# Altium schematic symbol library JLCPCB Resistor Schematic Lib.SchLib: 63 symbols
Pins are listed as number, name and electrical type; pins without a type are passive.

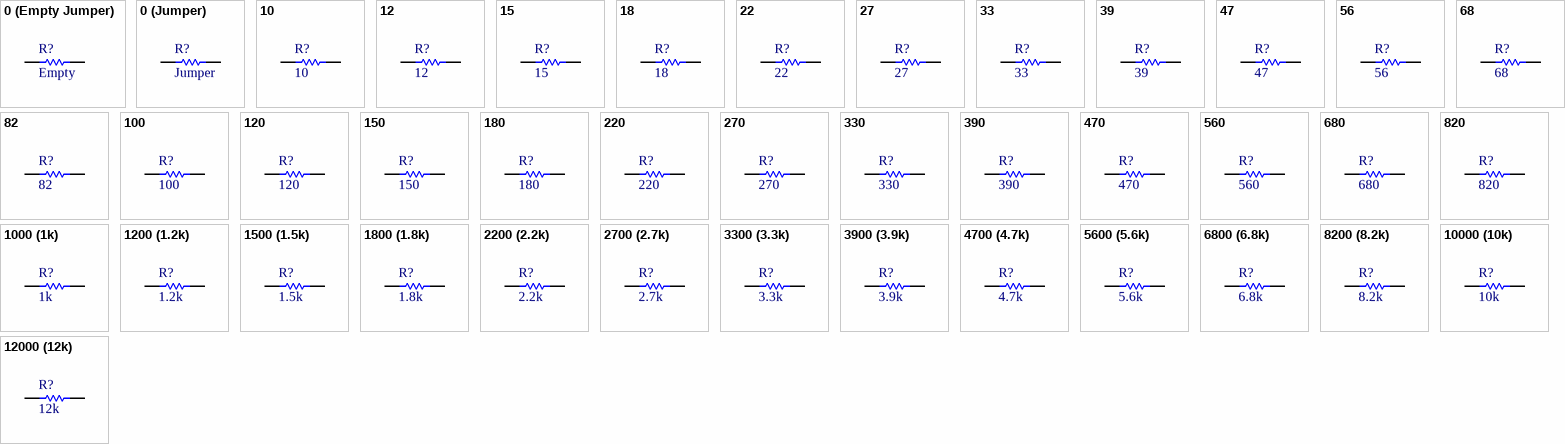
[diagram p0: symbols 0 (Empty Jumper) to 12000 (12k)]

## 0 (Empty Jumper)
designator R?, comment Empty
RES Thick Film, 0Ω, 0.125W, 150V, 0805; Value: 0; Footprint: 0805; ComponentLink1Description: Source; ComponentLink1URL: https://www.mouser.com/ProductDetail/Panasonic/ERJ-6GEY0R00V?qs=tQNqqtTOejLLHbaWAzeH1w%3D%3D; DNI: DNI; DNP: DNP
footprint 0805 (Chip Resistor, 2-Leads, Body 2.00x1.25mm, IPC High Density)
pins: 1, 2
1 alternate drawing of the same symbol

## 0 (Jumper)
designator R?, comment Jumper
RES Thick Film, 0Ω, 0.125W, 150V, 0805; MPN: 0805W8J0000T5E; Manufacturer: UNI-ROYAL(Uniroyal Elec); Power Rating: 125mW; Value: 0; Footprint: 0805; Voltage Rating: 150V; ComponentLink1Description: Source; ComponentLink1URL: https://www.mouser.com/ProductDetail/Panasonic/ERJ-6GEY0R00V?qs=tQNqqtTOejLLHbaWAzeH1w%3D%3D; JLCPCB Basic Part: FALSE; JLCPCB Part #: C25275
footprint 0805 (Chip Resistor, 2-Leads, Body 2.00x1.25mm, IPC High Density)
pins: 1, 2
1 alternate drawing of the same symbol

## 10
designator R?
RES Thick Film, 10Ω, 0.125W, 150V, 0805; MPN: RC0805FR-0710RL; Manufacturer: YAGEO; Power Rating: 125mW; Footprint: 0805; JLCPCB Part #: C96347; Voltage Rating: 150V; ComponentLink1Description: Source; ComponentLink1URL: https://jlcpcb.com/partdetail/Yageo-RC0805FR0710RL/C96347; Value: 10; JLCPCB Basic Part: TRUE
footprint 0805 (Chip Resistor, 2-Leads, Body 2.00x1.25mm, IPC High Density)
pins: 1, 2
1 alternate drawing of the same symbol

## 12
designator R?
RES Thick Film, 12Ω, 0.125W, 150V, 0805; MPN: ERJ6GEYJ120V; Manufacturer: PANASONIC; Power Rating: 125mW; Footprint: 0805; JLCPCB Part #: C413146; Voltage Rating: 150V; ComponentLink1Description: Source; ComponentLink1URL: https://jlcpcb.com/partdetail/Panasonic-ERJ6GEYJ120V/C413146; Value: 12; JLCPCB Basic Part: FALSE
footprint 0805 (Chip Resistor, 2-Leads, Body 2.00x1.25mm, IPC High Density)
pins: 1, 2
1 alternate drawing of the same symbol

## 15
designator R?
RES Thick Film, 15Ω, 0.125W, 150V, 0805; MPN: 0805W8F150JT5E; Manufacturer: UNI-ROYAL; Power Rating: 125mW; Footprint: 0805; JLCPCB Part #: C17480; Voltage Rating: 150V; ComponentLink1Description: Source; ComponentLink1URL: https://jlcpcb.com/partdetail/18168-0805W8F150JT5E/C17480; Value: 15; JLCPCB Basic Part: TRUE
footprint 0805 (Chip Resistor, 2-Leads, Body 2.00x1.25mm, IPC High Density)
pins: 1, 2
1 alternate drawing of the same symbol

## 18
designator R?
RES Thick Film, 18Ω, 0.125W, 150V, 0805; MPN: RC0805JR-0718RL; Manufacturer: YAGEO; Power Rating: 125mW; Footprint: 0805; JLCPCB Part #: C137467; Voltage Rating: 150V; ComponentLink1Description: Source; ComponentLink1URL: https://jlcpcb.com/partdetail/Yageo-RC0805JR0718RL/C137467; Value: 18; JLCPCB Basic Part: FALSE
footprint 0805 (Chip Resistor, 2-Leads, Body 2.00x1.25mm, IPC High Density)
pins: 1, 2
1 alternate drawing of the same symbol

## 22
designator R?
RES Thick Film, 22Ω, 0.125W, 150V, 0805; MPN: 0805W8F220JT5E; Manufacturer: UNI-ROYAL; Power Rating: 125mW; Footprint: 0805; JLCPCB Part #: C17561; Voltage Rating: 150V; ComponentLink1Description: Source; ComponentLink1URL: https://jlcpcb.com/partdetail/18249-0805W8F220JT5E/C17561; Value: 22; JLCPCB Basic Part: TRUE
footprint 0805 (Chip Resistor, 2-Leads, Body 2.00x1.25mm, IPC High Density)
pins: 1, 2
1 alternate drawing of the same symbol

## 27
designator R?
RES Thick Film, 27Ω, 0.125W, 150V, 0805; MPN: 0805W8F270JT5E; Manufacturer: UNI-ROYAL; Power Rating: 125mW; Footprint: 0805; JLCPCB Part #: C17594; Voltage Rating: 150V; ComponentLink1Description: Source; ComponentLink1URL: https://jlcpcb.com/partdetail/18282-0805W8F270JT5E/C17594; Value: 27; JLCPCB Basic Part: TRUE
footprint 0805 (Chip Resistor, 2-Leads, Body 2.00x1.25mm, IPC High Density)
pins: 1, 2
1 alternate drawing of the same symbol

## 33
designator R?
RES Thick Film, 33Ω, 0.125W, 150V, 0805; MPN: 0805W8F330JT5E; Manufacturer: UNI-ROYAL; Power Rating: 125mW; Footprint: 0805; JLCPCB Part #: C17634; Voltage Rating: 150V; ComponentLink1Description: Source; ComponentLink1URL: https://jlcpcb.com/partdetail/18322-0805W8F330JT5E/C17634; Value: 33; JLCPCB Basic Part: TRUE
footprint 0805 (Chip Resistor, 2-Leads, Body 2.00x1.25mm, IPC High Density)
pins: 1, 2
1 alternate drawing of the same symbol

## 39
designator R?
RES Thick Film, 39Ω, 0.125W, 150V, 0805; MPN: AC0805JR-0739RL; Manufacturer: YAGEO; Power Rating: 125mW; Footprint: 0805; JLCPCB Part #: C229199; Voltage Rating: 150V; ComponentLink1Description: Source; ComponentLink1URL: https://jlcpcb.com/partdetail/Yageo-AC0805JR0739RL/C229199; Value: 39; JLCPCB Basic Part: FALSE
footprint 0805 (Chip Resistor, 2-Leads, Body 2.00x1.25mm, IPC High Density)
pins: 1, 2
1 alternate drawing of the same symbol

## 47
designator R?
RES Thick Film, 47Ω, 0.125W, 150V, 0805; MPN: 0805W8F470JT5E; Manufacturer: UNI-ROYAL; Power Rating: 125mW; Footprint: 0805; JLCPCB Part #: C17714; Voltage Rating: 150V; ComponentLink1Description: Source; ComponentLink1URL: https://jlcpcb.com/partdetail/18402-0805W8F470JT5E/C17714; Value: 47; JLCPCB Basic Part: TRUE
footprint 0805 (Chip Resistor, 2-Leads, Body 2.00x1.25mm, IPC High Density)
pins: 1, 2
1 alternate drawing of the same symbol

## 56
designator R?
RES Thick Film, 56Ω, 0.125W, 150V, 0805; MPN: 0805W8F560JT5E; Manufacturer: UNI-ROYAL; Power Rating: 125mW; Footprint: 0805; JLCPCB Part #: C17757; Voltage Rating: 150V; ComponentLink1Description: Source; ComponentLink1URL: https://jlcpcb.com/partdetail/18445-0805W8F560JT5E/C17757; Value: 56; JLCPCB Basic Part: TRUE
footprint 0805 (Chip Resistor, 2-Leads, Body 2.00x1.25mm, IPC High Density)
pins: 1, 2
1 alternate drawing of the same symbol

## 68
designator R?
RES Thick Film, 68Ω, 0.125W, 150V, 0805; MPN: 0805W8F680JT5E; Manufacturer: UNI-ROYAL; Power Rating: 125mW; Footprint: 0805; JLCPCB Part #: C17802; Voltage Rating: 150V; ComponentLink1Description: Source; ComponentLink1URL: https://jlcpcb.com/partdetail/18490-0805W8F680JT5E/C17802; Value: 68; JLCPCB Basic Part: TRUE
footprint 0805 (Chip Resistor, 2-Leads, Body 2.00x1.25mm, IPC High Density)
pins: 1, 2
1 alternate drawing of the same symbol

## 82
designator R?
RES Thick Film, 82Ω, 0.125W, 150V, 0805; MPN: RT0805BRD0782RL; Manufacturer: YAGEO; Power Rating: 125mW; Footprint: 0805; JLCPCB Part #: C706251; Voltage Rating: 150V; ComponentLink1Description: Source; ComponentLink1URL: https://jlcpcb.com/partdetail/Yageo-RT0805BRD0782RL/C706251; Value: 82; JLCPCB Basic Part: FALSE
footprint 0805 (Chip Resistor, 2-Leads, Body 2.00x1.25mm, IPC High Density)
pins: 1, 2
1 alternate drawing of the same symbol

## 100
designator R?
RES Thick Film, 100Ω, 0.125W, 150V, 0805; MPN: 0805W8F1000T5E; Manufacturer: UNI-ROYAL; Power Rating: 125mW; Footprint: 0805; JLCPCB Part #: C17408; Voltage Rating: 150V; ComponentLink1Description: Source; ComponentLink1URL: https://jlcpcb.com/partdetail/18096-0805W8F1000T5E/C17408; Value: 100; JLCPCB Basic Part: TRUE
footprint 0805 (Chip Resistor, 2-Leads, Body 2.00x1.25mm, IPC High Density)
pins: 1, 2
1 alternate drawing of the same symbol

## 120
designator R?
RES Thick Film, 120Ω, 0.125W, 150V, 0805; MPN: 0805W8F1200T5E; Manufacturer: UNI-ROYAL; Power Rating: 125mW; Footprint: 0805; JLCPCB Part #: C17437; Voltage Rating: 150V; ComponentLink1Description: Source; ComponentLink1URL: https://jlcpcb.com/partdetail/18125-0805W8F1200T5E/C17437; Value: 120; JLCPCB Basic Part: TRUE
footprint 0805 (Chip Resistor, 2-Leads, Body 2.00x1.25mm, IPC High Density)
pins: 1, 2
1 alternate drawing of the same symbol

## 150
designator R?
RES Thick Film, 150Ω, 0.125W, 150V, 0805; MPN: 0805W8F1500T5E; Manufacturer: UNI-ROYAL; Power Rating: 125mW; Footprint: 0805; JLCPCB Part #: C17471; Voltage Rating: 150V; ComponentLink1Description: Source; ComponentLink1URL: https://jlcpcb.com/partdetail/18159-0805W8F1500T5E/C17471; Value: 150; JLCPCB Basic Part: TRUE
footprint 0805 (Chip Resistor, 2-Leads, Body 2.00x1.25mm, IPC High Density)
pins: 1, 2
1 alternate drawing of the same symbol

## 180
designator R?
RES Thick Film, 180Ω, 0.125W, 150V, 0805; MPN: 0805W8F1800T5E; Manufacturer: UNI-ROYAL; Power Rating: 125mW; Footprint: 0805; JLCPCB Part #: C25270; Voltage Rating: 150V; ComponentLink1Description: Source; ComponentLink1URL: https://jlcpcb.com/partdetail/26013-0805W8F1800T5E/C25270; Value: 180; JLCPCB Basic Part: TRUE
footprint 0805 (Chip Resistor, 2-Leads, Body 2.00x1.25mm, IPC High Density)
pins: 1, 2
1 alternate drawing of the same symbol

## 220
designator R?
RES Thick Film, 220Ω, 0.125W, 150V, 0805; MPN: 0805W8F2200T5E; Manufacturer: UNI-ROYAL; Power Rating: 125mW; Footprint: 0805; JLCPCB Part #: C17557; Voltage Rating: 150V; ComponentLink1Description: Source; ComponentLink1URL: https://jlcpcb.com/partdetail/18245-0805W8F2200T5E/C17557; Value: 220; JLCPCB Basic Part: TRUE
footprint 0805 (Chip Resistor, 2-Leads, Body 2.00x1.25mm, IPC High Density)
pins: 1, 2
1 alternate drawing of the same symbol

## 270
designator R?
RES Thick Film, 270Ω, 0.125W, 150V, 0805; MPN: 0805W8F2700T5E; Manufacturer: UNI-ROYAL; Power Rating: 125mW; Footprint: 0805; JLCPCB Part #: C17590; Voltage Rating: 150V; ComponentLink1Description: Source; ComponentLink1URL: https://jlcpcb.com/partdetail/18278-0805W8F2700T5E/C17590; Value: 270; JLCPCB Basic Part: TRUE
footprint 0805 (Chip Resistor, 2-Leads, Body 2.00x1.25mm, IPC High Density)
pins: 1, 2
1 alternate drawing of the same symbol

## 330
designator R?
RES Thick Film, 330Ω, 0.125W, 150V, 0805; MPN: 0805W8F3300T5E; Manufacturer: UNI-ROYAL; Power Rating: 125mW; Footprint: 0805; JLCPCB Part #: C17630; Voltage Rating: 150V; ComponentLink1Description: Source; ComponentLink1URL: https://jlcpcb.com/partdetail/18318-0805W8F3300T5E/C17630; Value: 330; JLCPCB Basic Part: TRUE
footprint 0805 (Chip Resistor, 2-Leads, Body 2.00x1.25mm, IPC High Density)
pins: 1, 2
1 alternate drawing of the same symbol

## 390
designator R?
RES Thick Film, 390Ω, 0.125W, 150V, 0805; MPN: 0805W8F3900T5E; Manufacturer: UNI-ROYAL; Power Rating: 125mW; Footprint: 0805; JLCPCB Part #: C17655; Voltage Rating: 150V; ComponentLink1Description: Source; ComponentLink1URL: https://jlcpcb.com/partdetail/18343-0805W8F3900T5E/C17655; Value: 390; JLCPCB Basic Part: TRUE
footprint 0805 (Chip Resistor, 2-Leads, Body 2.00x1.25mm, IPC High Density)
pins: 1, 2
1 alternate drawing of the same symbol

## 470
designator R?
RES Thick Film, 470Ω, 0.125W, 150V, 0805; MPN: 0805W8F4700T5E; Manufacturer: UNI-ROYAL; Power Rating: 125mW; Footprint: 0805; JLCPCB Part #: C17710; Voltage Rating: 150V; ComponentLink1Description: Source; ComponentLink1URL: https://jlcpcb.com/partdetail/18398-0805W8F4700T5E/C17710; Value: 470; JLCPCB Basic Part: TRUE
footprint 0805 (Chip Resistor, 2-Leads, Body 2.00x1.25mm, IPC High Density)
pins: 1, 2
1 alternate drawing of the same symbol

## 560
designator R?
RES Thick Film, 560Ω, 0.125W, 150V, 0805; MPN: 0805W8F5600T5E; Manufacturer: UNI-ROYAL; Power Rating: 125mW; Footprint: 0805; JLCPCB Part #: C28636; Voltage Rating: 150V; ComponentLink1Description: Source; ComponentLink1URL: https://jlcpcb.com/partdetail/29388-0805W8F5600T5E/C28636; Value: 560; JLCPCB Basic Part: TRUE
footprint 0805 (Chip Resistor, 2-Leads, Body 2.00x1.25mm, IPC High Density)
pins: 1, 2
1 alternate drawing of the same symbol

## 680
designator R?
RES Thick Film, 680Ω, 0.125W, 150V, 0805; MPN: 0805W8F6800T5E; Manufacturer: UNI-ROYAL; Power Rating: 125mW; Footprint: 0805; JLCPCB Part #: C17798; Voltage Rating: 150V; ComponentLink1Description: Source; ComponentLink1URL: https://jlcpcb.com/partdetail/18486-0805W8F6800T5E/C17798; Value: 680; JLCPCB Basic Part: TRUE
footprint 0805 (Chip Resistor, 2-Leads, Body 2.00x1.25mm, IPC High Density)
pins: 1, 2
1 alternate drawing of the same symbol

## 820
designator R?
RES Thick Film, 820Ω, 0.125W, 150V, 0805; MPN: 0805W8F8200T5E; Manufacturer: UNI-ROYAL; Power Rating: 125mW; Footprint: 0805; JLCPCB Part #: C17837; Voltage Rating: 150V; ComponentLink1Description: Source; ComponentLink1URL: https://jlcpcb.com/partdetail/18525-0805W8F8200T5E/C17837; Value: 820; JLCPCB Basic Part: TRUE
footprint 0805 (Chip Resistor, 2-Leads, Body 2.00x1.25mm, IPC High Density)
pins: 1, 2
1 alternate drawing of the same symbol

## 1000 (1k)
designator R?, comment 1k
RES Thick Film, 1kΩ, 0.125W, 150V, 0805; MPN: 0805W8F1001T5E; Manufacturer: UNI-ROYAL; Power Rating: 125mW; Footprint: 0805; JLCPCB Part #: C17513; Voltage Rating: 150V; ComponentLink1Description: Source; ComponentLink1URL: https://jlcpcb.com/partdetail/18201-0805W8F1001T5E/C17513; Value: 1k; JLCPCB Basic Part: TRUE
footprint 0805 (Chip Resistor, 2-Leads, Body 2.00x1.25mm, IPC High Density)
pins: 1, 2
1 alternate drawing of the same symbol

## 1200 (1.2k)
designator R?, comment 1.2k
RES Thick Film, 1.2kΩ, 0.125W, 150V, 0805; MPN: 0805W8F1201T5E; Manufacturer: UNI-ROYAL; Power Rating: 125mW; Footprint: 0805; JLCPCB Part #: C17379; Voltage Rating: 150V; ComponentLink1Description: Source; ComponentLink1URL: https://jlcpcb.com/partdetail/18067-0805W8F1201T5E/C17379; Value: 1.2k; JLCPCB Basic Part: TRUE
footprint 0805 (Chip Resistor, 2-Leads, Body 2.00x1.25mm, IPC High Density)
pins: 1, 2
1 alternate drawing of the same symbol

## 1500 (1.5k)
designator R?, comment 1.5k
RES Thick Film, 1.5kΩ, 0.125W, 150V, 0805; MPN: 0805W8F1501T5E; Manufacturer: UNI-ROYAL; Power Rating: 125mW; Footprint: 0805; JLCPCB Part #: C4310; Voltage Rating: 150V; ComponentLink1Description: Source; ComponentLink1URL: https://jlcpcb.com/partdetail/4717-0805W8F1501T5E/C4310; Value: 1.5k; JLCPCB Basic Part: TRUE
footprint 0805 (Chip Resistor, 2-Leads, Body 2.00x1.25mm, IPC High Density)
pins: 1, 2
1 alternate drawing of the same symbol

## 1800 (1.8k)
designator R?, comment 1.8k
RES Thick Film, 1.8kΩ, 0.125W, 150V, 0805; MPN: 0805W8F1801T5E; Manufacturer: UNI-ROYAL; Power Rating: 125mW; Footprint: 0805; JLCPCB Part #: C17398; Voltage Rating: 150V; ComponentLink1Description: Source; ComponentLink1URL: https://jlcpcb.com/partdetail/18086-0805W8F1801T5E/C17398; Value: 1.8k; JLCPCB Basic Part: TRUE
footprint 0805 (Chip Resistor, 2-Leads, Body 2.00x1.25mm, IPC High Density)
pins: 1, 2
1 alternate drawing of the same symbol

## 2200 (2.2k)
designator R?, comment 2.2k
RES Thick Film, 2.2kΩ, 0.125W, 150V, 0805; MPN: 0805W8F2201T5E; Manufacturer: UNI-ROYAL; Power Rating: 125mW; Footprint: 0805; JLCPCB Part #: C17520; Voltage Rating: 150V; ComponentLink1Description: Source; ComponentLink1URL: https://jlcpcb.com/partdetail/18208-0805W8F2201T5E/C17520; Value: 2.2k; JLCPCB Basic Part: TRUE
footprint 0805 (Chip Resistor, 2-Leads, Body 2.00x1.25mm, IPC High Density)
pins: 1, 2
1 alternate drawing of the same symbol

## 2700 (2.7k)
designator R?, comment 2.7k
RES Thick Film, 2.7kΩ, 0.125W, 150V, 0805; MPN: 0805W8F2701T5E; Manufacturer: UNI-ROYAL; Power Rating: 125mW; Footprint: 0805; JLCPCB Part #: C17530; Voltage Rating: 150V; ComponentLink1Description: Source; ComponentLink1URL: https://jlcpcb.com/partdetail/18218-0805W8F2701T5E/C17530; Value: 2.7k; JLCPCB Basic Part: TRUE
footprint 0805 (Chip Resistor, 2-Leads, Body 2.00x1.25mm, IPC High Density)
pins: 1, 2
1 alternate drawing of the same symbol

## 3300 (3.3k)
designator R?, comment 3.3k
RES Thick Film, 3.3kΩ, 0.125W, 150V, 0805; MPN: 0805W8F3301T5E; Manufacturer: UNI-ROYAL; Power Rating: 125mW; Footprint: 0805; JLCPCB Part #: C26010; Voltage Rating: 150V; ComponentLink1Description: Source; ComponentLink1URL: https://jlcpcb.com/partdetail/26753-0805W8F3301T5E/C26010; Value: 3.3k; JLCPCB Basic Part: TRUE
footprint 0805 (Chip Resistor, 2-Leads, Body 2.00x1.25mm, IPC High Density)
pins: 1, 2
1 alternate drawing of the same symbol

## 3900 (3.9k)
designator R?, comment 3.9k
RES Thick Film, 3.9kΩ, 0.125W, 150V, 0805; MPN: 0805W8F3901T5E; Manufacturer: UNI-ROYAL; Power Rating: 125mW; Footprint: 0805; JLCPCB Part #: C17614; Voltage Rating: 150V; ComponentLink1Description: Source; ComponentLink1URL: https://jlcpcb.com/partdetail/18302-0805W8F3901T5E/C17614; Value: 3.9k; JLCPCB Basic Part: TRUE
footprint 0805 (Chip Resistor, 2-Leads, Body 2.00x1.25mm, IPC High Density)
pins: 1, 2
1 alternate drawing of the same symbol

## 4700 (4.7k)
designator R?, comment 4.7k
RES Thick Film, 4.7kΩ, 0.125W, 150V, 0805; MPN: 0805W8F4701T5E; Manufacturer: UNI-ROYAL; Power Rating: 125mW; Footprint: 0805; JLCPCB Part #: C17673; Voltage Rating: 150V; ComponentLink1Description: Source; ComponentLink1URL: https://jlcpcb.com/partdetail/18361-0805W8F4701T5E/C17673; Value: 4.7k; JLCPCB Basic Part: TRUE
footprint 0805 (Chip Resistor, 2-Leads, Body 2.00x1.25mm, IPC High Density)
pins: 1, 2
1 alternate drawing of the same symbol

## 5600 (5.6k)
designator R?, comment 5.6k
RES Thick Film, 5.6kΩ, 0.125W, 150V, 0805; MPN: 0805W8F5601T5E; Manufacturer: UNI-ROYAL; Power Rating: 125mW; Footprint: 0805; JLCPCB Part #: C4382; Voltage Rating: 150V; ComponentLink1Description: Source; ComponentLink1URL: https://jlcpcb.com/partdetail/4789-0805W8F5601T5E/C4382; Value: 5.6k; JLCPCB Basic Part: TRUE
footprint 0805 (Chip Resistor, 2-Leads, Body 2.00x1.25mm, IPC High Density)
pins: 1, 2
1 alternate drawing of the same symbol

## 6800 (6.8k)
designator R?, comment 6.8k
RES Thick Film, 6.8kΩ, 0.125W, 150V, 0805; MPN: 0805W8F6801T5E; Manufacturer: UNI-ROYAL; Power Rating: 125mW; Footprint: 0805; JLCPCB Part #: C17772; Voltage Rating: 150V; ComponentLink1Description: Source; ComponentLink1URL: https://jlcpcb.com/partdetail/18460-0805W8F6801T5E/C17772; Value: 6.8k; JLCPCB Basic Part: TRUE
footprint 0805 (Chip Resistor, 2-Leads, Body 2.00x1.25mm, IPC High Density)
pins: 1, 2
1 alternate drawing of the same symbol

## 8200 (8.2k)
designator R?, comment 8.2k
RES Thick Film, 8.2kΩ, 0.125W, 150V, 0805; MPN: 0805W8F8201T5E; Manufacturer: UNI-ROYAL; Power Rating: 125mW; Footprint: 0805; JLCPCB Part #: C17828; Voltage Rating: 150V; ComponentLink1Description: Source; ComponentLink1URL: https://jlcpcb.com/partdetail/18516-0805W8F8201T5E/C17828; Value: 8.2k; JLCPCB Basic Part: TRUE
footprint 0805 (Chip Resistor, 2-Leads, Body 2.00x1.25mm, IPC High Density)
pins: 1, 2
1 alternate drawing of the same symbol

## 10000 (10k)
designator R?, comment 10k
RES Thick Film, 10kΩ, 0.125W, 150V, 0805; MPN: 0805W8F1002T5E; Manufacturer: UNI-ROYAL; Power Rating: 125mW; Footprint: 0805; JLCPCB Part #: C17414; Voltage Rating: 150V; ComponentLink1Description: Source; ComponentLink1URL: https://jlcpcb.com/partdetail/18102-0805W8F1002T5E/C17414; Value: 10k; JLCPCB Basic Part: TRUE
footprint 0805 (Chip Resistor, 2-Leads, Body 2.00x1.25mm, IPC High Density)
pins: 1, 2
1 alternate drawing of the same symbol

## 12000 (12k)
designator R?, comment 12k
RES Thick Film, 10kΩ, 0.125W, 150V, 0805; MPN: 0805W8F1202T5E; Manufacturer: UNI-ROYAL; Power Rating: 125mW; Footprint: 0805; JLCPCB Part #: C17444; Voltage Rating: 150V; ComponentLink1Description: Source; ComponentLink1URL: https://jlcpcb.com/partdetail/18132-0805W8F1202T5E/C17444; Value: 12k; JLCPCB Basic Part: TRUE
footprint 0805 (Chip Resistor, 2-Leads, Body 2.00x1.25mm, IPC High Density)
pins: 1, 2
1 alternate drawing of the same symbol

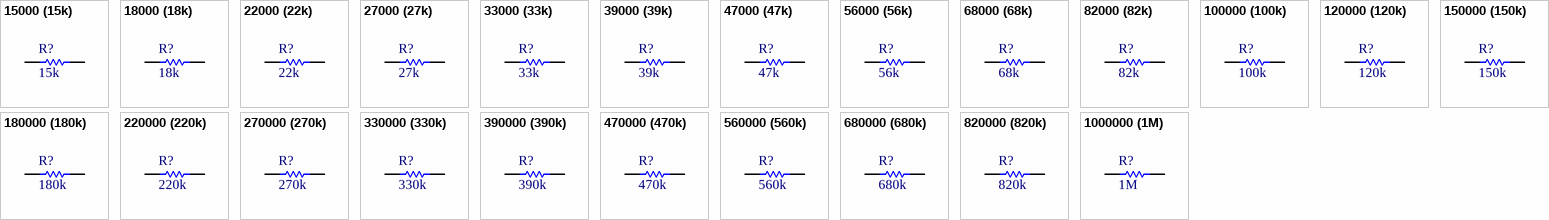
[diagram p1: symbols 15000 (15k) to 1000000 (1M)]

## 15000 (15k)
designator R?, comment 15k
RES Thick Film, 15kΩ, 0.125W, 150V, 0805; MPN: 0805W8F1502T5E; Manufacturer: UNI-ROYAL; Power Rating: 125mW; Footprint: 0805; JLCPCB Part #: C17475; Voltage Rating: 150V; ComponentLink1Description: Source; ComponentLink1URL: https://jlcpcb.com/partdetail/18163-0805W8F1502T5E/C17475; Value: 15k; JLCPCB Basic Part: TRUE
footprint 0805 (Chip Resistor, 2-Leads, Body 2.00x1.25mm, IPC High Density)
pins: 1, 2
1 alternate drawing of the same symbol

## 18000 (18k)
designator R?, comment 18k
RES Thick Film, 18kΩ, 0.125W, 150V, 0805; MPN: 0805W8F1802T5E; Manufacturer: UNI-ROYAL; Power Rating: 125mW; Footprint: 0805; JLCPCB Part #: C17506; Voltage Rating: 150V; ComponentLink1Description: Source; ComponentLink1URL: https://jlcpcb.com/partdetail/18194-0805W8F1802T5E/C17506; Value: 18k; JLCPCB Basic Part: TRUE
footprint 0805 (Chip Resistor, 2-Leads, Body 2.00x1.25mm, IPC High Density)
pins: 1, 2
1 alternate drawing of the same symbol

## 22000 (22k)
designator R?, comment 22k
RES Thick Film, 22kΩ, 0.125W, 150V, 0805; MPN: 0805W8F2202T5E; Manufacturer: UNI-ROYAL; Power Rating: 125mW; Footprint: 0805; JLCPCB Part #: C17560; Voltage Rating: 150V; ComponentLink1Description: Source; ComponentLink1URL: https://jlcpcb.com/partdetail/18248-0805W8F2202T5E/C17560; Value: 22k; JLCPCB Basic Part: TRUE
footprint 0805 (Chip Resistor, 2-Leads, Body 2.00x1.25mm, IPC High Density)
pins: 1, 2
1 alternate drawing of the same symbol

## 27000 (27k)
designator R?, comment 27k
RES Thick Film, 27kΩ, 0.125W, 150V, 0805; MPN: 0805W8F2702T5E; Manufacturer: UNI-ROYAL; Power Rating: 125mW; Footprint: 0805; JLCPCB Part #: C17593; Voltage Rating: 150V; ComponentLink1Description: Source; ComponentLink1URL: https://jlcpcb.com/partdetail/18281-0805W8F2702T5E/C17593; Value: 27k; JLCPCB Basic Part: TRUE
footprint 0805 (Chip Resistor, 2-Leads, Body 2.00x1.25mm, IPC High Density)
pins: 1, 2
1 alternate drawing of the same symbol

## 33000 (33k)
designator R?, comment 33k
RES Thick Film, 33kΩ, 0.125W, 150V, 0805; MPN: 0805W8F3302T5E; Manufacturer: UNI-ROYAL; Power Rating: 125mW; Footprint: 0805; JLCPCB Part #: C17633; Voltage Rating: 150V; ComponentLink1Description: Source; ComponentLink1URL: https://jlcpcb.com/partdetail/18321-0805W8F3302T5E/C17633; Value: 33k; JLCPCB Basic Part: TRUE
footprint 0805 (Chip Resistor, 2-Leads, Body 2.00x1.25mm, IPC High Density)
pins: 1, 2
1 alternate drawing of the same symbol

## 39000 (39k)
designator R?, comment 39k
RES Thick Film, 39kΩ, 0.125W, 150V, 0805; MPN: 0805W8F3902T5E; Manufacturer: UNI-ROYAL; Power Rating: 125mW; Footprint: 0805; JLCPCB Part #: C25826; Voltage Rating: 150V; ComponentLink1Description: Source; ComponentLink1URL: https://jlcpcb.com/partdetail/26569-0805W8F3902T5E/C25826; Value: 39k; JLCPCB Basic Part: TRUE
footprint 0805 (Chip Resistor, 2-Leads, Body 2.00x1.25mm, IPC High Density)
pins: 1, 2
1 alternate drawing of the same symbol

## 47000 (47k)
designator R?, comment 47k
RES Thick Film, 47kΩ, 0.125W, 150V, 0805; MPN: 0805W8F4702T5E; Manufacturer: UNI-ROYAL; Power Rating: 125mW; Footprint: 0805; JLCPCB Part #: C17713; Voltage Rating: 150V; ComponentLink1Description: Source; ComponentLink1URL: https://jlcpcb.com/partdetail/18401-0805W8F4702T5E/C17713; Value: 47k; JLCPCB Basic Part: TRUE
footprint 0805 (Chip Resistor, 2-Leads, Body 2.00x1.25mm, IPC High Density)
pins: 1, 2
1 alternate drawing of the same symbol

## 56000 (56k)
designator R?, comment 56k
RES Thick Film, 56kΩ, 0.125W, 150V, 0805; MPN: 0805W8F5602T5E; Manufacturer: UNI-ROYAL; Power Rating: 125mW; Footprint: 0805; JLCPCB Part #: C17756; Voltage Rating: 150V; ComponentLink1Description: Source; ComponentLink1URL: https://jlcpcb.com/partdetail/18444-0805W8F5602T5E/C17756; Value: 56k; JLCPCB Basic Part: TRUE
footprint 0805 (Chip Resistor, 2-Leads, Body 2.00x1.25mm, IPC High Density)
pins: 1, 2
1 alternate drawing of the same symbol

## 68000 (68k)
designator R?, comment 68k
RES Thick Film, 68kΩ, 0.125W, 150V, 0805; MPN: 0805W8F6802T5E; Manufacturer: UNI-ROYAL; Power Rating: 125mW; Footprint: 0805; JLCPCB Part #: C17801; Voltage Rating: 150V; ComponentLink1Description: Source; ComponentLink1URL: https://jlcpcb.com/partdetail/18489-0805W8F6802T5E/C17801; Value: 68k; JLCPCB Basic Part: TRUE
footprint 0805 (Chip Resistor, 2-Leads, Body 2.00x1.25mm, IPC High Density)
pins: 1, 2
1 alternate drawing of the same symbol

## 82000 (82k)
designator R?, comment 82k
RES Thick Film, 82kΩ, 0.125W, 150V, 0805; MPN: 0805W8F8202T5E; Manufacturer: UNI-ROYAL; Power Rating: 125mW; Footprint: 0805; JLCPCB Part #: C17840; Voltage Rating: 150V; ComponentLink1Description: Source; ComponentLink1URL: https://jlcpcb.com/partdetail/18528-0805W8F8202T5E/C17840; Value: 82k; JLCPCB Basic Part: TRUE
footprint 0805 (Chip Resistor, 2-Leads, Body 2.00x1.25mm, IPC High Density)
pins: 1, 2
1 alternate drawing of the same symbol

## 100000 (100k)
designator R?, comment 100k
RES Thick Film, 100kΩ, 0.125W, 150V, 0805; MPN: 0805W8F1003T5E; Manufacturer: UNI-ROYAL; Power Rating: 125mW; Footprint: 0805; JLCPCB Part #: C149504; Voltage Rating: 150V; ComponentLink1Description: Source; ComponentLink1URL: https://jlcpcb.com/partdetail/160838-0805W8F1003T5E/C149504; Value: 100k; JLCPCB Basic Part: TRUE
footprint 0805 (Chip Resistor, 2-Leads, Body 2.00x1.25mm, IPC High Density)
pins: 1, 2
1 alternate drawing of the same symbol

## 120000 (120k)
designator R?, comment 120k
RES Thick Film, 120kΩ, 0.125W, 150V, 0805; MPN: 0805W8F1203T5E; Manufacturer: UNI-ROYAL; Power Rating: 125mW; Footprint: 0805; JLCPCB Part #: C17436; Voltage Rating: 150V; ComponentLink1Description: Source; ComponentLink1URL: https://jlcpcb.com/partdetail/18124-0805W8F1203T5E/C17436; Value: 120k; JLCPCB Basic Part: TRUE
footprint 0805 (Chip Resistor, 2-Leads, Body 2.00x1.25mm, IPC High Density)
pins: 1, 2
1 alternate drawing of the same symbol

## 150000 (150k)
designator R?, comment 150k
RES Thick Film, 150kΩ, 0.125W, 150V, 0805; MPN: 0805W8F1503T5E; Manufacturer: UNI-ROYAL; Power Rating: 125mW; Footprint: 0805; JLCPCB Part #: C17470; Voltage Rating: 150V; ComponentLink1Description: Source; ComponentLink1URL: https://jlcpcb.com/partdetail/18158-0805W8F1503T5E/C17470; Value: 150k; JLCPCB Basic Part: TRUE
footprint 0805 (Chip Resistor, 2-Leads, Body 2.00x1.25mm, IPC High Density)
pins: 1, 2
1 alternate drawing of the same symbol

## 180000 (180k)
designator R?, comment 180k
RES Thick Film, 180kΩ, 0.125W, 150V, 0805; MPN: 0805W8F1803T5E; Manufacturer: UNI-ROYAL; Power Rating: 125mW; Footprint: 0805; JLCPCB Part #: C17501; Voltage Rating: 150V; ComponentLink1Description: Source; ComponentLink1URL: https://jlcpcb.com/partdetail/18189-0805W8F1803T5E/C17501; Value: 180k; JLCPCB Basic Part: TRUE
footprint 0805 (Chip Resistor, 2-Leads, Body 2.00x1.25mm, IPC High Density)
pins: 1, 2
1 alternate drawing of the same symbol

## 220000 (220k)
designator R?, comment 220k
RES Thick Film, 220kΩ, 0.125W, 150V, 0805; MPN: 0805W8F2203T5E; Manufacturer: UNI-ROYAL; Power Rating: 125mW; Footprint: 0805; JLCPCB Part #: C17556; Voltage Rating: 150V; ComponentLink1Description: Source; ComponentLink1URL: https://jlcpcb.com/partdetail/18244-0805W8F2203T5E/C17556; Value: 220k; JLCPCB Basic Part: TRUE
footprint 0805 (Chip Resistor, 2-Leads, Body 2.00x1.25mm, IPC High Density)
pins: 1, 2
1 alternate drawing of the same symbol

## 270000 (270k)
designator R?, comment 270k
RES Thick Film, 270kΩ, 0.125W, 150V, 0805; MPN: 0805W8F2703T5E; Manufacturer: UNI-ROYAL; Power Rating: 125mW; Footprint: 0805; JLCPCB Part #: C17589; Voltage Rating: 150V; ComponentLink1Description: Source; ComponentLink1URL: https://jlcpcb.com/partdetail/18277-0805W8F2703T5E/C17589; Value: 270k; JLCPCB Basic Part: TRUE
footprint 0805 (Chip Resistor, 2-Leads, Body 2.00x1.25mm, IPC High Density)
pins: 1, 2
1 alternate drawing of the same symbol

## 330000 (330k)
designator R?, comment 330k
RES Thick Film, 330kΩ, 0.125W, 150V, 0805; MPN: 0805W8F3303T5E; Manufacturer: UNI-ROYAL; Power Rating: 125mW; Footprint: 0805; JLCPCB Part #: C17629; Voltage Rating: 150V; ComponentLink1Description: Source; ComponentLink1URL: https://jlcpcb.com/partdetail/18317-0805W8F3303T5E/C17629; Value: 330k; JLCPCB Basic Part: TRUE
footprint 0805 (Chip Resistor, 2-Leads, Body 2.00x1.25mm, IPC High Density)
pins: 1, 2
1 alternate drawing of the same symbol

## 390000 (390k)
designator R?, comment 390k
RES Thick Film, 390kΩ, 0.125W, 150V, 0805; MPN: 0805W8F3903T5E; Manufacturer: UNI-ROYAL; Power Rating: 125mW; Footprint: 0805; JLCPCB Part #: C17656; Voltage Rating: 150V; ComponentLink1Description: Source; ComponentLink1URL: https://jlcpcb.com/partdetail/18344-0805W8F3903T5E/C17656; Value: 390k; JLCPCB Basic Part: TRUE
footprint 0805 (Chip Resistor, 2-Leads, Body 2.00x1.25mm, IPC High Density)
pins: 1, 2
1 alternate drawing of the same symbol

## 470000 (470k)
designator R?, comment 470k
RES Thick Film, 470kΩ, 0.125W, 150V, 0805; MPN: 0805W8F4703T5E; Manufacturer: UNI-ROYAL; Power Rating: 125mW; Footprint: 0805; JLCPCB Part #: C17709; Voltage Rating: 150V; ComponentLink1Description: Source; ComponentLink1URL: https://jlcpcb.com/partdetail/18397-0805W8F4703T5E/C17709; Value: 470k; JLCPCB Basic Part: TRUE
footprint 0805 (Chip Resistor, 2-Leads, Body 2.00x1.25mm, IPC High Density)
pins: 1, 2
1 alternate drawing of the same symbol

## 560000 (560k)
designator R?, comment 560k
RES Thick Film, 560kΩ, 0.500W, 400V, 0805; MPN: ERJP06J564V; Manufacturer: PANASONIC; Voltage Rating: 150V; Power Rating: 125mW; Footprint: 0805; JLCPCB Part #: C441964; ComponentLink1Description: Source; ComponentLink1URL: https://jlcpcb.com/partdetail/Panasonic-ERJP06J564V/C441964; Value: 560k; JLCPCB Basic Part: FALSE
footprint 0805 (Chip Resistor, 2-Leads, Body 2.00x1.25mm, IPC High Density)
pins: 1, 2
1 alternate drawing of the same symbol

## 680000 (680k)
designator R?, comment 680k
RES Thick Film, 680kΩ, 0.125W, 150V, 0805; MPN: 0805W8F6803T5E; Manufacturer: UNI-ROYAL; Power Rating: 125mW; Footprint: 0805; JLCPCB Part #: C17797; Voltage Rating: 150V; ComponentLink1Description: Source; ComponentLink1URL: https://jlcpcb.com/partdetail/18485-0805W8F6803T5E/C17797; Value: 680k; JLCPCB Basic Part: TRUE
footprint 0805 (Chip Resistor, 2-Leads, Body 2.00x1.25mm, IPC High Density)
pins: 1, 2
1 alternate drawing of the same symbol

## 820000 (820k)
designator R?, comment 820k
RES Thick Film, 820kΩ, 0.125W, 150V, 0805; MPN: ERJ6GEYJ824V; Manufacturer: PANASONIC; Power Rating: 125mW; Footprint: 0805; JLCPCB Part #: C413229; Voltage Rating: 150V; ComponentLink1Description: Source; ComponentLink1URL: https://jlcpcb.com/partdetail/Panasonic-ERJ6GEYJ824V/C413229; Value: 820k; JLCPCB Basic Part: FALSE
footprint 0805 (Chip Resistor, 2-Leads, Body 2.00x1.25mm, IPC High Density)
pins: 1, 2
1 alternate drawing of the same symbol

## 1000000 (1M)
designator R?, comment 1M
RES Thick Film, 1MΩ, 0.125W, 150V, 0805; MPN: 0805W8F1004T5E; Manufacturer: UNI-ROYAL; Power Rating: 125mW; Footprint: 0805; JLCPCB Part #: C17514; Voltage Rating: 150V; ComponentLink1Description: Source; ComponentLink1URL: https://jlcpcb.com/partdetail/18202-0805W8F1004T5E/C17514; Value: 1M; JLCPCB Basic Part: TRUE
footprint 0805 (Chip Resistor, 2-Leads, Body 2.00x1.25mm, IPC High Density)
pins: 1, 2
1 alternate drawing of the same symbol